# Altium footprint library bone_cape_minimal.PcbLib: 1 footprints
Each footprint in its own frame and in the unit in brackets; x right, y up, seen from the top. Pads: shape width x height; smd on the part's side, far side on the other; paste and mask are expansions set on the pad; w line width, h text height; cw(c..) or ccw(c..) is an arc to the next point about the centre after c.
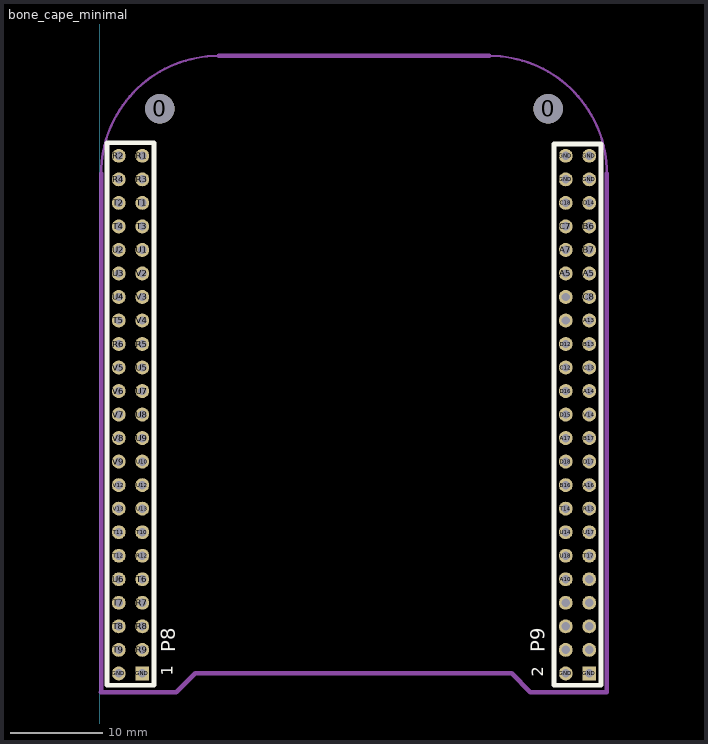
[diagram p0: the footprint, top view; thin cyan lines are the x and y axes]

## bone_cape_minimal [mm]
pads (94):
  round 3.175 hole 3.175: 0(6.477,80.518) 0(48.387,80.518)
  round 1.5 hole 0.9: A5(50.292,62.738) A5(52.832,62.738) A7(50.292,65.278) A10(50.292,29.718) A13(52.832,57.658) A14(52.832,50.038) A16(52.832,39.878) A17(50.292,44.958) B6(52.832,67.818) B7(52.832,65.278) B13(52.832,55.118) B16(50.292,39.878) B17(52.832,44.958) C7(50.292,67.818) C8(52.832,60.198) C12(50.292,52.578) C13(52.832,52.578) C18(50.292,70.358) D12(50.292,55.118) D14(52.832,70.358) D15(50.292,47.498) D16(50.292,50.038) D17(52.832,42.418) D18(50.292,42.418) GND(2.032,19.558) GND(50.292,19.558) GND(50.292,72.898) GND(50.292,75.438) GND(52.832,72.898) GND(52.832,75.438) GNDA_ADC(50.292,60.198) PWR_BUT(52.832,29.718) R1(4.572,75.438) R2(2.032,75.438) R3(4.572,72.898) R4(2.032,72.898) R5(4.572,55.118) R6(2.032,55.118) R7(4.572,27.178) R8(4.572,24.638) R9(4.572,22.098) R12(4.572,32.258) R13(52.832,37.338) SYS_5V(50.292,27.178) SYS_5V(52.832,27.178) T1(4.572,70.358) T2(2.032,70.358) T3(4.572,67.818) T4(2.032,67.818) T5(2.032,57.658) T6(4.572,29.718) T7(2.032,27.178) T8(2.032,24.638) T9(2.032,22.098) T10(4.572,34.798) T11(2.032,34.798) T12(2.032,32.258) T14(50.292,37.338) T17(52.832,32.258) U1(4.572,65.278) U2(2.032,65.278) U3(2.032,62.738) U4(2.032,60.198) U5(4.572,52.578) U6(2.032,29.718) U7(4.572,50.038) U8(4.572,47.498) U9(4.572,44.958) U10(4.572,42.418) U12(4.572,39.878) U13(4.572,37.338) U14(50.292,34.798) U17(52.832,34.798) U18(50.292,32.258) V2(4.572,62.738) V3(4.572,60.198) V4(4.572,57.658) V5(2.032,52.578) V6(2.032,50.038) V7(2.032,47.498) V8(2.032,44.958) V9(2.032,42.418) V12(2.032,39.878) V13(2.032,37.338) V14(52.832,47.498) VDD_3V3(50.292,22.098) VDD_3V3(52.832,22.098) VDD_5V(50.292,24.638) VDD_5V(52.832,24.638) VDD_ADC(50.292,57.658)
  rect 1.5x1.5 hole 0.9: GND(4.572,19.558) GND(52.832,19.558)
Top Overlay:
  lines w0.5: 0.762,18.288 0.762,76.835 5.842,76.835 5.842,18.288 0.762,18.288 ; 49.022,18.288 49.022,76.708 54.102,76.708 54.102,18.288 49.022,18.288
  text "1" at 7.874,19.304 h1.27
  text "2" at 47.879,19.177 h1.27
  text "P8" at 8.128,21.844 h1.52
  text "P9" at 48.006,21.844 h1.52
Board Outline:
  lines w0.254: 0.127,73.533 cw(c12.827,73.533) 12.827,86.233 ; 42.037,86.233 cw(c42.037,73.533) 54.737,73.533
  lines w0.5: 0.127,17.526 0.127,73.533 ; 12.827,86.233 42.037,86.233 ; 54.737,17.526 54.737,73.533
  lines w0.508: 0.127,17.526 8.255,17.526 10.287,19.558 44.45,19.558 46.482,17.526 54.61,17.526